# Altium schematic symbol library Molex46437-1150.SchLib: 1 symbol
Pins are listed as number, name and electrical type; pins without a type are passive.

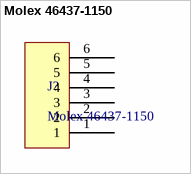
[diagram p0: symbol Molex 46437-1150]

## Molex 46437-1150
designator J?
5.50mm Pitch EXTreme Ten60Power Right Angle Plug Assembly with Guide Pins, 6 DC Power Circuits; ComponentLink1Description: Molex Website; ComponentLink1URL: https://www.molex.com/molex/products/datasheet.jsp?part=active/0464371150_PCB_HEADERS.xml
footprint Molex 46437-1150
pins: 1, 2, 3, 4, 5, 6